# Altium footprint library PcbLib.PcbLib: 26 footprints (part 1 of 2)
Each footprint in its own frame and in the unit in brackets; x right, y up, seen from the top. Pads: shape width x height; smd on the part's side, far side on the other; paste and mask are expansions set on the pad; w line width, h text height; cw(c..) or ccw(c..) is an arc to the next point about the centre after c.
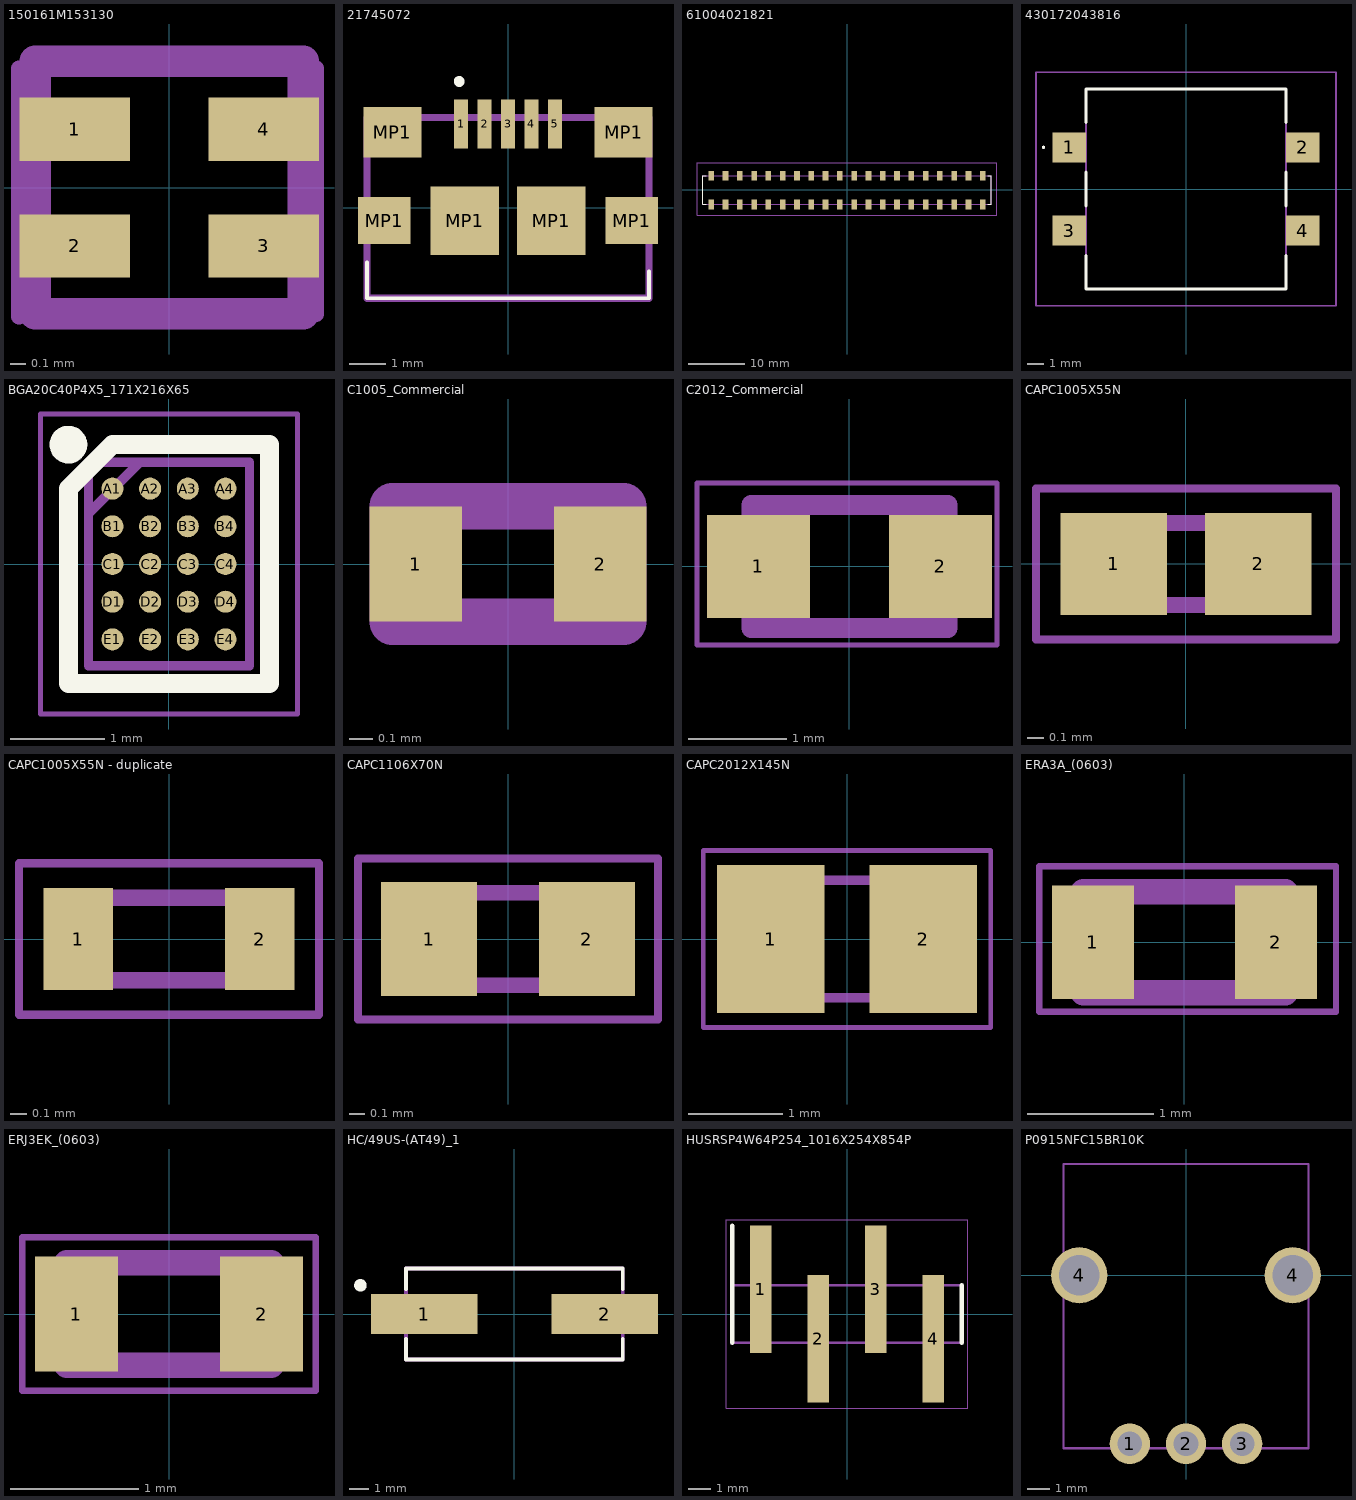
[diagram p0: the footprints below, top view; thin cyan lines are the x and y axes]

## 150161M153130 [mm]
pads (4):
  rect 0.7x0.4 smd: 1(-0.6,0.37) 2(-0.6,-0.37) 3(0.6,-0.37) 4(0.6,0.37)
Mechanical 13:
  lines w0.2: -0.85,-0.8 -0.85,0.8 0.85,0.8 0.85,-0.8 -0.85,-0.8
Mechanical 15:
  lines w0.1: -0.953,-0.818 -0.938,-0.803 0.933,-0.803 0.933,0.755 -0.953,0.755 -0.953,-0.818
3D body "150161M153130.stp": height 1.8, standoff 0, extent -0.85,-0.8 0.85,0.8

## 21745072 [mm]
pads (11):
  rect 0.4x1.35 smd: 1(-1.3,2.325) 2(-0.65,2.325) 3(0,2.325) 4(0.65,2.325) 5(1.3,2.325)
  rect 1.45x1.3 smd: MP1(-3.425,-0.35) MP1(3.425,-0.35)
  rect 1.6x1.4 smd: MP1(-3.2,2.1) MP1(3.2,2.1)
  rect 1.9x1.9 smd: MP1(-1.2,-0.35) MP1(1.2,-0.35)
Top Overlay:
  lines w0.1: -3.9,-2.5 -3.9,-1.5 -3.9,-2.5 ; -3.9,-2.5 3.9,-2.5 ; -3.9,-2.5 3.9,-2.5 ; 3.9,-2.5 3.9,-1.75 3.9,-2.5
  lines w0.2: -1.4,3.5 ccw(c-1.35,3.5) -1.3,3.5 ; -1.4,3.5 cw(c-1.35,3.5) -1.3,3.5 ; -1.4,3.5 ccw(c-1.35,3.5) -1.3,3.5
Mechanical 13:
  lines w0.2: -3.9,-2.5 3.9,-2.5 3.9,2.5 -3.9,2.5 -3.9,-2.5
3D body "2174507-2.stp": height 2.7, standoff 0, extent -3.9,-2.43 3.9,2.57

## 61004021821 [mm]
pads (40):
  rect 1x1.65 smd: 1(24.13,2.525) 3(21.59,2.525) 5(19.05,2.525) 7(16.51,2.525) 9(13.97,2.525) 11(11.43,2.525) 13(8.89,2.525) 15(6.35,2.525) 17(3.81,2.525) 19(1.27,2.525) 21(-1.27,2.525) 23(-3.81,2.525) 25(-6.35,2.525) 27(-8.89,2.525) 29(-11.43,2.525) 31(-13.97,2.525) 33(-16.51,2.525) 35(-19.05,2.525) 37(-21.59,2.525) 39(-24.13,2.525)
  rect 1x1.8 smd: 2(24.13,-2.6) 4(21.59,-2.6) 6(19.05,-2.6) 8(16.51,-2.6) 10(13.97,-2.6) 12(11.43,-2.6) 14(8.89,-2.6) 16(6.35,-2.6) 18(3.81,-2.6) 20(1.27,-2.6) 22(-1.27,-2.6) 24(-3.81,-2.6) 26(-6.35,-2.6) 28(-8.89,-2.6) 30(-11.43,-2.6) 32(-13.97,-2.6) 34(-16.51,-2.6) 36(-19.05,-2.6) 38(-21.59,-2.6) 40(-24.13,-2.6)
Top Overlay:
  lines w0.1: -25,-2.54 -25.65,-2.54 -25.65,2.54 -25,2.54 ; 25,-2.54 25.65,-2.54 25.65,2.54 25,2.54
Mechanical 13:
  lines w0.2: -25.65,-2.54 -25.65,2.54 25.65,2.54 25.65,-2.54 -25.65,-2.54
Mechanical 15:
  lines w0.1: -26.65,-4.5 -26.65,4.85 26.65,4.85 26.65,-4.5 -26.65,-4.5
3D body "61004021821.stp": height 7.7, standoff 0, extent -25.65,-3.4 25.65,3.4

## 430172043816 [mm]
pads (4):
  rect 2x1.8 smd: 1(-7,2.5) 2(7,2.5) 3(-7,-2.5) 4(7,-2.5)
Top Overlay:
  lines w0.1: -8.6,2.5 ccw(c-8.55,2.5) -8.5,2.5 ccw(c-8.55,2.5) -8.6,2.5
  lines w0.2: -6,-4 -6,-6 6,-6 6,-4 ; -6,-1 -6,1 ; -6,4 -6,6 6,6 6,4 ; 6,-1 6,1
Mechanical 13:
  lines w0.1: -6,-6 6,-6 6,6 -6,6 -6,-6
Mechanical 15:
  lines w0.1: -9,-7 9,-7 9,7 -9,7 -9,-7
3D body "Download_STP_430172043816 (rev1).stp": height 4.28, standoff -0.03, extent -7.703,-6.018 7.597,5.982

## BGA20C40P4X5_171X216X65 [mm]
pads (20):
  round 0.234 smd: A1(-0.6,0.8) A2(-0.2,0.8) A3(0.2,0.8) A4(0.6,0.8) B1(-0.6,0.4) B2(-0.2,0.4) B3(0.2,0.4) B4(0.6,0.4) C1(-0.6,0) C2(-0.2,0) C3(0.2,0) C4(0.6,0) D1(-0.6,-0.4) D2(-0.2,-0.4) D3(0.2,-0.4) D4(0.6,-0.4) E1(-0.6,-0.8) E2(-0.2,-0.8) E3(0.2,-0.8) E4(0.6,-0.8)
Top Overlay:
  circle w0.2: c-1.067,1.267 r0.1
  lines w0.2: -1.067,-1.267 1.067,-1.267 1.067,1.267 -0.6,1.267 -1.067,0.8 -1.067,-1.267
Mechanical 13:
  lines w0.1: -0.854,0.536 -0.308,1.082 ; -0.854,-1.082 0.855,-1.082 0.855,1.082 -0.854,1.082 -0.854,-1.082
Mechanical 15:
  lines w0.05: -1.364,-1.592 1.365,-1.592 1.365,1.592 -1.364,1.592 -1.364,-1.592
3D body "LED1202JR.stp": height 0.65, standoff 0, extent -0.854,-1.082 0.854,1.082

## C1005_Commercial [mm]
pads (2):
  rect 0.4x0.5 smd: 1(-0.4,0) 2(0.4,0)
Mechanical 13:
  lines w0.2: -0.5,-0.25 -0.5,0.25 0.5,0.25 0.5,-0.25 -0.5,-0.25
3D body "C1005X7S1A225K050BC.stp": height 0.5, standoff 0, extent -0.509,-0.248 0.491,0.252

## C2012_Commercial [mm]
pads (2):
  rect 1.05x1.05 smd: 1(-0.925,0) 2(0.925,0)
Mechanical 13:
  lines w0.2: -1,-0.625 1,-0.625 1,0.625 -1,0.625 -1,-0.625
Mechanical 15:
  lines w0.05: -1.55,-0.8 1.5,-0.8 1.5,0.85 -1.55,0.85 -1.55,-0.8
3D body "C2012X6S1C106K125AC.stp": height 1.25, standoff 0, extent -0.96,-0.8 1.04,0.8

## CAPC1005X55N [mm]
pads (2):
  rect 0.65x0.62 smd: 1(-0.44,0) 2(0.44,0)
Mechanical 13:
  lines w0.1: -0.5,-0.25 -0.5,0.25 0.5,0.25 0.5,-0.25 -0.5,-0.25
Mechanical 15:
  lines w0.05: -0.915,-0.46 -0.915,0.46 0.915,0.46 0.915,-0.46 -0.915,-0.46
3D body "C0402C105K9PAC.stp": height 0.55, standoff 0, extent -0.52,-0.28 0.53,0.27

## CAPC1005X55N - duplicate [mm]
pads (2):
  rect 0.42x0.62 smd: 1(-0.55,0) 2(0.55,0)
Mechanical 13:
  lines w0.1: -0.5,-0.25 -0.5,0.25 0.5,0.25 0.5,-0.25 -0.5,-0.25
Mechanical 15:
  lines w0.05: -0.91,-0.46 -0.91,0.46 0.91,0.46 0.91,-0.46 -0.91,-0.46
3D body "CGA2B1X7R1C104K050BC.stp": height 0.55, standoff 0, extent -0.5,-0.25 0.5,0.25

## CAPC1106X70N [mm]
pads (2):
  rect 0.62x0.74 smd: 1(-0.51,0) 2(0.51,0)
Mechanical 13:
  lines w0.1: -0.55,-0.3 0.55,-0.3 0.55,0.3 -0.55,0.3 -0.55,-0.3
Mechanical 15:
  lines w0.05: -0.97,-0.52 0.97,-0.52 0.97,0.52 -0.97,0.52 -0.97,-0.52
3D body "UMK105CBJ105MV-F.stp": height 0.7, standoff 0, extent -0.55,-0.3 0.55,0.3

## CAPC2012X145N [mm]
pads (2):
  rect 1.14x1.57 smd: 1(-0.81,0) 2(0.81,0)
Mechanical 13:
  lines w0.1: -1,-0.625 -1,0.625 1,0.625 1,-0.625 -1,-0.625
Mechanical 15:
  lines w0.05: -1.53,-0.94 -1.53,0.94 1.53,0.94 1.53,-0.94 -1.53,-0.94
3D body "C0805X105K5RACAUTO.stp": height 1.45, standoff 0, extent -1.17,-0.78 1.18,0.77

## ERA3A_(0603) [mm]
pads (2):
  rect 0.65x0.9 smd: 1(-0.725,0) 2(0.725,0)
Mechanical 13:
  lines w0.2: -0.8,-0.4 0.8,-0.4 0.8,0.4 -0.8,0.4 -0.8,-0.4
Mechanical 15:
  lines w0.05: -1.15,-0.55 1.2,-0.55 1.2,0.6 -1.15,0.6 -1.15,-0.55
3D body "ERA3AHD27R4V.stp": height 0.45, standoff 0, extent -0.8,-0.4 0.8,0.4

## ERJ3EK_(0603) [mm]
pads (2):
  rect 0.65x0.9 smd: 1(-0.725,0) 2(0.725,0)
Mechanical 13:
  lines w0.2: -0.8,-0.4 -0.8,0.4 0.8,0.4 0.8,-0.4 -0.8,-0.4
Mechanical 15:
  lines w0.05: -1.15,-0.6 -1.15,0.6 1.15,0.6 1.15,-0.6 -1.15,-0.6
3D body "ERJ-3EKF1001V.stp": height 0.45, standoff 0, extent -0.8,-0.4 0.8,0.4

## HC/49US-(AT49)_1 [mm]
pads (2):
  rect 5.6x2.1 smd: 1(-4.75,0) 2(4.75,0)
Top Overlay:
  circle w0.4: c-8.105,1.51 r0.126
  lines w0.2: -5.7,-1.3 -5.7,-2.4 5.7,-2.4 5.7,-1.3 ; -5.7,1.3 -5.7,2.4 5.7,2.4 5.7,1.3
Mechanical 13:
  lines w0.2: -5.7,-2.4 -5.7,2.4 5.7,2.4 5.7,-2.4 -5.7,-2.4
3D body "ABLS-12.000MHZ-B4-T.stp": height 4.2, standoff 0, extent -6.35,-2.35 6.35,2.35

## HUSRSP4W64P254_1016X254X854P [mm]
pads (4):
  rect 0.96x5.64 smd: 1(-3.81,1.09) 2(-1.27,-1.09) 3(1.27,1.09) 4(3.81,-1.09)
Top Overlay:
  lines w0.2: -5.08,-1.27 -5.08,3.91 ; 5.08,-1.27 5.08,1.27
Mechanical 13:
  lines w0.1: -5.08,-1.27 -5.08,1.27 5.08,1.27 5.08,-1.27 -5.08,-1.27
Mechanical 15:
  lines w0.05: -5.33,-4.16 -5.33,4.16 5.33,4.16 5.33,-4.16 -5.33,-4.16
3D body "61000418321.stp": height 9.3, standoff 0, extent -5.08,-2.5 5.08,2.5

## P0915NFC15BR10K [mm]
pads (5):
  round 1.8 hole 1.1: 1(-2.5,-7.5) 2(0,-7.5) 3(2.5,-7.5)
  round 2.5 hole 1.8: 4(-4.75,0) 4(4.75,0)
Mechanical 13:
  lines w0.1: -5.45,-7.7 5.45,-7.7 5.45,4.95 -5.45,4.95 -5.45,-7.7
3D body "P0915N-FCBR10K.STEP": height 30, standoff -3.5, extent -5.35,-7.6 5.35,4.85